# Altium schematic symbol library ARCOM_Capacitors.SchLib: 225 symbols (part 1 of 4)
Pins are listed as number, name and electrical type; pins without a type are passive.

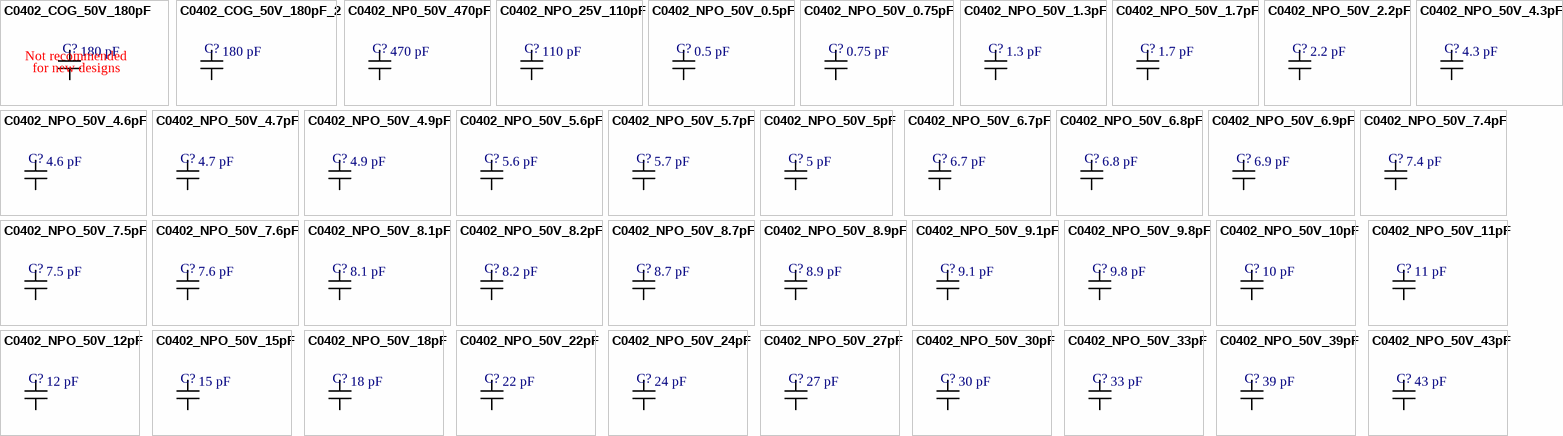
[diagram p0: symbols C0402_COG_50V_180pF to C0402_NPO_50V_43pF]

## C0402_COG_50V_180pF
designator C?  value 180 pF  (hidden comment: C0402_COG_50V_180pF)
Not recommended for new designs; Manufacturer: Murata Manufacturing co., ltd; Manufacturer P/N: GRM1555C1H181JA01J; Part: 180 pF,  COG, 50V, 5%tol.; ComponentLink2URL: http://search.murata.co.jp/Ceramy/image/img/A01X/G101/ENG/GRM155R71C104KA88-01.pdf; ComponentLink2Description: Datasheet; ComponentLink1Description: Manufacturer; ComponentLink1URL: http://www.murata.com/; ComponentLink3Description: Datasheet2; ComponentLink3URL: http://www.farnell.com/datasheets/1747446.pdf; Family: Capacitor
footprint C0402_L (Chip Capacitor, Body 1.0x0.5mm, Height 0.6mm, IPC High Density)
footprint C0402_M (Chip Capacitor, Body 1.0x0.5mm, Height 0.6mm, IPC Low Density)
footprint C0402_N (Chip Capacitor, Body 1.0x0.5mm, Height 0.6mm, IPC Medium Density)
footprint C0402_L - Arcom (Chip Capacitor, Body 1.0x0.5mm, Height 0.6mm, IPC High Density)
pins: 1, 2
text: Not recommended; for new designs

## C0402_COG_50V_180pF_2
designator C?, comment value 180 pF  (hidden comment: C0402_COG_50V_180pF)
Ceramic Capacitor 0402 Size; Manufacturer: Cal-chip; Manufacturer P/N: GMC04CG181J50NT; Part: 180 pF,  COG, 50V, 5%tol.; ComponentLink2URL: http://www.calchipelectronics.com/pdf/gmc_series.pdf; ComponentLink2Description: Datasheet; ComponentLink1Description: Manufacturer; ComponentLink1URL: http://www.calchipelectronics.com/; ComponentLink3Description: Datasheet2; Family: Capacitor
footprint C0402_L (Chip Capacitor, Body 1.0x0.5mm, Height 0.6mm, IPC High Density)
footprint C0402_M (Chip Capacitor, Body 1.0x0.5mm, Height 0.6mm, IPC Low Density)
footprint C0402_N (Chip Capacitor, Body 1.0x0.5mm, Height 0.6mm, IPC Medium Density)
footprint C0402_L - Arcom (Chip Capacitor, Body 1.0x0.5mm, Height 0.6mm, IPC High Density)
pins: 1, 2

## C0402_NP0_50V_470pF
designator C?  value 470 pF  (hidden comment: C0402_NP0_50V_470pF)
Ceramic Capacitor 0402 Size; Manufacturer: JOHANSON DIELECTRICS; Manufacturer P/N: 500R07N471GV4T; Part: 470 pF, NPO, 50V, 2%tol.; ComponentLink2URL: http://www.mouser.com/ds/2/611/JDI-Surface-Mount-516221.pdf; ComponentLink2Description: Datasheet; ComponentLink1Description: Manufacturer; ComponentLink1URL: http://www.johansondielectrics.com; ComponentLink3Description: Datasheet2; Family: Capacitor
footprint C0402_L (Chip Capacitor, Body 1.0x0.5mm, Height 0.6mm, IPC High Density)
footprint C0402_M (Chip Capacitor, Body 1.0x0.5mm, Height 0.6mm, IPC Low Density)
footprint C0402_N (Chip Capacitor, Body 1.0x0.5mm, Height 0.6mm, IPC Medium Density)
footprint C0402_L - Arcom (Chip Capacitor, Body 1.0x0.5mm, Height 0.6mm, IPC High Density)
pins: 1, 2

## C0402_NPO_25V_110pF
designator C?  value 110 pF  (hidden comment: C0402_NPO_25V_110pF)
Ceramic Capacitor 0402 Size; Manufacturer: Murata; Manufacturer P/N: GRM1555C1E111JA01D; Part: 110 pF, NPO, 25V, 5%tol.; ComponentLink2Description: Datasheet; ComponentLink1Description: Manufacturer; ComponentLink3Description: Datasheet2; Family: Capacitor
footprint C0402_L (Chip Capacitor, Body 1.0x0.5mm, Height 0.6mm, IPC High Density)
footprint C0402_M (Chip Capacitor, Body 1.0x0.5mm, Height 0.6mm, IPC Low Density)
footprint C0402_N (Chip Capacitor, Body 1.0x0.5mm, Height 0.6mm, IPC Medium Density)
footprint C0402_L - Arcom (Chip Capacitor, Body 1.0x0.5mm, Height 0.6mm, IPC High Density)
pins: 1, 2

## C0402_NPO_50V_0.5pF
designator C?  value 0.5 pF  (hidden comment: C0402_NPO_50V_0.5pF)
Ceramic Capacitor 0402 Size; Manufacturer: JOHANSON DIELECTRICS; Manufacturer P/N: 500R07S0R5BV4T; Part: 0.5 pF, NPO, 50V, +/-0.1pF tol.; ComponentLink2URL: http://www.mouser.com/ds/2/611/JDI-Surface-Mount-516221.pdf; ComponentLink2Description: Datasheet; ComponentLink1Description: Manufacturer; ComponentLink1URL: http://www.johansondielectrics.com; ComponentLink3Description: Datasheet2; Family: Capacitor
footprint C0402_L (Chip Capacitor, Body 1.0x0.5mm, Height 0.6mm, IPC High Density)
footprint C0402_N (Chip Capacitor, Body 1.0x0.5mm, Height 0.6mm, IPC Medium Density)
footprint C0402_M (Chip Capacitor, Body 1.0x0.5mm, Height 0.6mm, IPC Low Density)
footprint C0402_L - Arcom (Chip Capacitor, Body 1.0x0.5mm, Height 0.6mm, IPC High Density)
pins: 1, 2

## C0402_NPO_50V_0.75pF
designator C?  value 0.75 pF  (hidden comment: C0402_NPO_50V_0.75pF)
Ceramic Capacitor 0402 Size; Manufacturer: Murata; Manufacturer P/N: GCM1555C1HR75CA16D; Part: 0.75 pF, NPO, 50V, 0.25pF_tol.; ComponentLink2Description: Datasheet; ComponentLink1Description: Manufacturer; ComponentLink3Description: Datasheet2; Family: Capacitor
footprint C0402_L (Chip Capacitor, Body 1.0x0.5mm, Height 0.6mm, IPC High Density)
footprint C0402_N (Chip Capacitor, Body 1.0x0.5mm, Height 0.6mm, IPC Medium Density)
footprint C0402_M (Chip Capacitor, Body 1.0x0.5mm, Height 0.6mm, IPC Low Density)
footprint C0402_L - Arcom (Chip Capacitor, Body 1.0x0.5mm, Height 0.6mm, IPC High Density)
pins: 1, 2

## C0402_NPO_50V_1.3pF
designator C?  value 1.3 pF  (hidden comment: C0402_NPO_50V_1.3pF)
Ceramic Capacitor 0402 Size; Manufacturer P/N: GRM1555C1H1R3CA01D; Part: 1.3 pF, NPO, 50V, 0.25pF_tol.; ComponentLink2Description: Datasheet; ComponentLink1Description: Manufacturer; ComponentLink3Description: Datasheet2; Family: Capacitor
footprint C0402_L (Chip Capacitor, Body 1.0x0.5mm, Height 0.6mm, IPC High Density)
footprint C0402_N (Chip Capacitor, Body 1.0x0.5mm, Height 0.6mm, IPC Medium Density)
footprint C0402_M (Chip Capacitor, Body 1.0x0.5mm, Height 0.6mm, IPC Low Density)
footprint C0402_L - Arcom (Chip Capacitor, Body 1.0x0.5mm, Height 0.6mm, IPC High Density)
pins: 1, 2

## C0402_NPO_50V_1.7pF
designator C?  value 1.7 pF  (hidden comment: C0402_NPO_50V_1.7pF)
Ceramic Capacitor 0402 Size; Manufacturer: JOHANSON DIELECTRICS; Manufacturer P/N: 500R07S1R7BV4T; Part: 1.7 pF, NPO, 50V, +/-0.1pF tol.; ComponentLink2URL: http://www.mouser.com/ds/2/611/JDI-Surface-Mount-516221.pdf; ComponentLink2Description: Datasheet; ComponentLink1Description: Manufacturer; ComponentLink1URL: http://www.johansondielectrics.com; ComponentLink3Description: Datasheet2; Family: Capacitor
footprint C0402_L (Chip Capacitor, Body 1.0x0.5mm, Height 0.6mm, IPC High Density)
footprint C0402_N (Chip Capacitor, Body 1.0x0.5mm, Height 0.6mm, IPC Medium Density)
footprint C0402_M (Chip Capacitor, Body 1.0x0.5mm, Height 0.6mm, IPC Low Density)
footprint C0402_L - Arcom (Chip Capacitor, Body 1.0x0.5mm, Height 0.6mm, IPC High Density)
pins: 1, 2

## C0402_NPO_50V_2.2pF
designator C?  value 2.2 pF  (hidden comment: C0402_NPO_50V_2.2pF)
Ceramic Capacitor 0402 Size; Manufacturer P/N: GCQ1555C1H2R2BB01D; Part: 2.2 pF, NPO, 50V, 0.1pF_tol.; ComponentLink2URL: https://ru.mouser.com/datasheet/2/281/GCQ1555C1HR51WB01-01-1154307.pdf; ComponentLink2Description: Datasheet; ComponentLink1Description: Manufacturer; ComponentLink3Description: Datasheet2; Family: Capacitor
footprint C0402_L (Chip Capacitor, Body 1.0x0.5mm, Height 0.6mm, IPC High Density)
footprint C0402_N (Chip Capacitor, Body 1.0x0.5mm, Height 0.6mm, IPC Medium Density)
footprint C0402_M (Chip Capacitor, Body 1.0x0.5mm, Height 0.6mm, IPC Low Density)
footprint C0402_L - Arcom (Chip Capacitor, Body 1.0x0.5mm, Height 0.6mm, IPC High Density)
pins: 1, 2

## C0402_NPO_50V_4.3pF
designator C?  value 4.3 pF  (hidden comment: C0402_NPO_50V_4.3pF)
Ceramic Capacitor 0402 Size; Manufacturer: JOHANSON DIELECTRICS; Manufacturer P/N: 500R07N4R3BV4T; Part: 4.3 pF, NPO, 50V, +/- 0.1pF tol.; ComponentLink2URL: http://www.mouser.com/ds/2/611/JDI-Surface-Mount-516221.pdf; ComponentLink2Description: Datasheet; ComponentLink1Description: Manufacturer; ComponentLink1URL: http://www.johansondielectrics.com; ComponentLink3Description: Datasheet2; Family: Capacitor
footprint C0402_L (Chip Capacitor, Body 1.0x0.5mm, Height 0.6mm, IPC High Density)
footprint C0402_N (Chip Capacitor, Body 1.0x0.5mm, Height 0.6mm, IPC Medium Density)
footprint C0402_M (Chip Capacitor, Body 1.0x0.5mm, Height 0.6mm, IPC Low Density)
footprint C0402_L - Arcom (Chip Capacitor, Body 1.0x0.5mm, Height 0.6mm, IPC High Density)
pins: 1, 2

## C0402_NPO_50V_4.6pF
designator C?  value 4.6 pF  (hidden comment: C0402_NPO_50V_4.6pF)
Ceramic Capacitor 0402 Size; Manufacturer: Murata; Manufacturer P/N: GCM1555C1H4R6CA01D; Part: 4.6 pF, NPO, 50V, 0.25pF_tol.; ComponentLink2Description: Datasheet; ComponentLink1Description: Manufacturer; ComponentLink3Description: Datasheet2; Family: Capacitor
footprint C0402_L (Chip Capacitor, Body 1.0x0.5mm, Height 0.6mm, IPC High Density)
footprint C0402_N (Chip Capacitor, Body 1.0x0.5mm, Height 0.6mm, IPC Medium Density)
footprint C0402_M (Chip Capacitor, Body 1.0x0.5mm, Height 0.6mm, IPC Low Density)
footprint C0402_L - Arcom (Chip Capacitor, Body 1.0x0.5mm, Height 0.6mm, IPC High Density)
pins: 1, 2

## C0402_NPO_50V_4.7pF
designator C?  value 4.7 pF  (hidden comment: C0402_NPO_50V_4.7pF)
Ceramic Capacitor 0402 Size; Manufacturer: Kemet; Manufacturer P/N: C0402C479B5GACTU; Part: 4.7 pF, NPO, 50V, 0.1pF_tol.; ComponentLink2Description: Datasheet; ComponentLink1Description: Manufacturer; ComponentLink3Description: Datasheet2; Family: Capacitor
footprint C0402_L (Chip Capacitor, Body 1.0x0.5mm, Height 0.6mm, IPC High Density)
footprint C0402_N (Chip Capacitor, Body 1.0x0.5mm, Height 0.6mm, IPC Medium Density)
footprint C0402_M (Chip Capacitor, Body 1.0x0.5mm, Height 0.6mm, IPC Low Density)
footprint C0402_L - Arcom (Chip Capacitor, Body 1.0x0.5mm, Height 0.6mm, IPC High Density)
pins: 1, 2

## C0402_NPO_50V_4.9pF
designator C?  value 4.9 pF  (hidden comment: C0402_NPO_50V_4.9pF)
Ceramic Capacitor 0402 Size; Manufacturer: JOHANSON DIELECTRICS; Manufacturer P/N: 500R07N4R9BV4T; Part: 4.9 pF, NPO, 50V, +/- 0.1pF tol.; ComponentLink2URL: http://www.mouser.com/ds/2/611/JDI-Surface-Mount-516221.pdf; ComponentLink2Description: Datasheet; ComponentLink1Description: Manufacturer; ComponentLink1URL: http://www.johansondielectrics.com; ComponentLink3Description: Datasheet2; Family: Capacitor
footprint C0402_L (Chip Capacitor, Body 1.0x0.5mm, Height 0.6mm, IPC High Density)
footprint C0402_N (Chip Capacitor, Body 1.0x0.5mm, Height 0.6mm, IPC Medium Density)
footprint C0402_M (Chip Capacitor, Body 1.0x0.5mm, Height 0.6mm, IPC Low Density)
footprint C0402_L - Arcom (Chip Capacitor, Body 1.0x0.5mm, Height 0.6mm, IPC High Density)
pins: 1, 2

## C0402_NPO_50V_5.6pF
designator C?  value 5.6 pF  (hidden comment: C0402_NPO_50V_5.6pF)
Ceramic Capacitor 0402 Size; Manufacturer: JOHANSON DIELECTRICS; Manufacturer P/N: 500R07N5R6BV4T; Part: 5.6 pF, NPO, 50V, +/- 0.1pF tol.; ComponentLink2URL: http://www.mouser.com/ds/2/611/JDI-Surface-Mount-516221.pdf; ComponentLink2Description: Datasheet; ComponentLink1Description: Manufacturer; ComponentLink1URL: http://www.johansondielectrics.com; ComponentLink3Description: Datasheet2; Family: Capacitor
footprint C0402_L (Chip Capacitor, Body 1.0x0.5mm, Height 0.6mm, IPC High Density)
footprint C0402_N (Chip Capacitor, Body 1.0x0.5mm, Height 0.6mm, IPC Medium Density)
footprint C0402_M (Chip Capacitor, Body 1.0x0.5mm, Height 0.6mm, IPC Low Density)
footprint C0402_L - Arcom (Chip Capacitor, Body 1.0x0.5mm, Height 0.6mm, IPC High Density)
pins: 1, 2

## C0402_NPO_50V_5.7pF
designator C?  value 5.7 pF  (hidden comment: C0402_NPO_50V_5.7pF)
Ceramic Capacitor 0402 Size; Manufacturer: Murata; Manufacturer P/N: GRM1555C1H5R7BA01D; Part: 5.7 pF, NPO, 50V, 0.1pF_tol.; ComponentLink2Description: Datasheet; ComponentLink1Description: Manufacturer; ComponentLink3Description: Datasheet2; Family: Capacitor
footprint C0402_L (Chip Capacitor, Body 1.0x0.5mm, Height 0.6mm, IPC High Density)
footprint C0402_M (Chip Capacitor, Body 1.0x0.5mm, Height 0.6mm, IPC Low Density)
footprint C0402_N (Chip Capacitor, Body 1.0x0.5mm, Height 0.6mm, IPC Medium Density)
footprint C0402_L - Arcom (Chip Capacitor, Body 1.0x0.5mm, Height 0.6mm, IPC High Density)
pins: 1, 2

## C0402_NPO_50V_5pF
designator C?  value 5 pF  (hidden comment: C0402_NPO_50V_5pF)
Ceramic Capacitor 0402 Size; Manufacturer: Murata; Manufacturer P/N: GCM1555C1H5R0CA16D; Part: 5 pF, NPO, 50V, 0.25pF_tol.; ComponentLink2Description: Datasheet; ComponentLink1Description: Manufacturer; ComponentLink3Description: Datasheet2; Family: Capacitor
footprint C0402_L (Chip Capacitor, Body 1.0x0.5mm, Height 0.6mm, IPC High Density)
footprint C0402_N (Chip Capacitor, Body 1.0x0.5mm, Height 0.6mm, IPC Medium Density)
footprint C0402_M (Chip Capacitor, Body 1.0x0.5mm, Height 0.6mm, IPC Low Density)
footprint C0402_L - Arcom (Chip Capacitor, Body 1.0x0.5mm, Height 0.6mm, IPC High Density)
pins: 1, 2

## C0402_NPO_50V_6.7pF
designator C?  value 6.7 pF  (hidden comment: C0402_NPO_50V_6.7pF)
Ceramic Capacitor 0402 Size; Manufacturer: Murata; Manufacturer P/N: GRM1555C1H6R7CA01D; Part: 6.7 pF, NPO, 50V, 0.25pF_tol.; ComponentLink2Description: Datasheet; ComponentLink1Description: Manufacturer; ComponentLink3Description: Datasheet2; Family: Capacitor
footprint C0402_L (Chip Capacitor, Body 1.0x0.5mm, Height 0.6mm, IPC High Density)
footprint C0402_M (Chip Capacitor, Body 1.0x0.5mm, Height 0.6mm, IPC Low Density)
footprint C0402_N (Chip Capacitor, Body 1.0x0.5mm, Height 0.6mm, IPC Medium Density)
footprint C0402_L - Arcom (Chip Capacitor, Body 1.0x0.5mm, Height 0.6mm, IPC High Density)
pins: 1, 2

## C0402_NPO_50V_6.8pF
designator C?  value 6.8 pF  (hidden comment: C0402_NPO_50V_6.8pF)
Ceramic Capacitor 0402 Size; Manufacturer: Murata; Manufacturer P/N: GRM1555C1H6R8CA01D; Part: 6.8 pF, NPO, 50V, 0.25pF_tol.; ComponentLink2Description: Datasheet; ComponentLink1Description: Manufacturer; ComponentLink3Description: Datasheet2; Family: Capacitor
footprint C0402_L (Chip Capacitor, Body 1.0x0.5mm, Height 0.6mm, IPC High Density)
footprint C0402_M (Chip Capacitor, Body 1.0x0.5mm, Height 0.6mm, IPC Low Density)
footprint C0402_N (Chip Capacitor, Body 1.0x0.5mm, Height 0.6mm, IPC Medium Density)
footprint C0402_L - Arcom (Chip Capacitor, Body 1.0x0.5mm, Height 0.6mm, IPC High Density)
pins: 1, 2

## C0402_NPO_50V_6.9pF
designator C?  value 6.9 pF  (hidden comment: C0402_NPO_50V_6.9pF)
Ceramic Capacitor 0402 Size; Manufacturer: Murata; Manufacturer P/N: GRM1555C1H6R9CA01D; Part: 6.9 pF, NPO, 50V, 0.25pF_tol.; ComponentLink2Description: Datasheet; ComponentLink1Description: Manufacturer; ComponentLink3Description: Datasheet2; Family: Capacitor
footprint C0402_L (Chip Capacitor, Body 1.0x0.5mm, Height 0.6mm, IPC High Density)
footprint C0402_M (Chip Capacitor, Body 1.0x0.5mm, Height 0.6mm, IPC Low Density)
footprint C0402_N (Chip Capacitor, Body 1.0x0.5mm, Height 0.6mm, IPC Medium Density)
footprint C0402_L - Arcom (Chip Capacitor, Body 1.0x0.5mm, Height 0.6mm, IPC High Density)
pins: 1, 2

## C0402_NPO_50V_7.4pF
designator C?  value 7.4 pF  (hidden comment: C0402_NPO_50V_7.4pF)
Ceramic Capacitor 0402 Size; Manufacturer: Murata; Manufacturer P/N: GRM1555C1H7R4DA01D; Part: 7.4 pF, NP0, 50V, 0.5pF_tol.; ComponentLink2Description: Datasheet; ComponentLink1Description: Manufacturer; ComponentLink3Description: Datasheet2; Family: Capacitor
footprint C0402_L (Chip Capacitor, Body 1.0x0.5mm, Height 0.6mm, IPC High Density)
footprint C0402_M (Chip Capacitor, Body 1.0x0.5mm, Height 0.6mm, IPC Low Density)
footprint C0402_N (Chip Capacitor, Body 1.0x0.5mm, Height 0.6mm, IPC Medium Density)
footprint C0402_L - Arcom (Chip Capacitor, Body 1.0x0.5mm, Height 0.6mm, IPC High Density)
pins: 1, 2

## C0402_NPO_50V_7.5pF
designator C?  value 7.5 pF  (hidden comment: C0402_NPO_50V_7.5pF)
Ceramic Capacitor 0402 Size; Manufacturer: JOHANSON DIELECTRICS; Manufacturer P/N: 500R07S7R5DV4T; Part: 7.5 pF, NPO, 50V, +/-0.5pF tol.; ComponentLink2URL: http://www.mouser.com/ds/2/611/JDI-Surface-Mount-516221.pdf; ComponentLink2Description: Datasheet; ComponentLink1Description: Manufacturer; ComponentLink1URL: http://www.johansondielectrics.com; ComponentLink3Description: Datasheet2; Family: Capacitor
footprint C0402_L (Chip Capacitor, Body 1.0x0.5mm, Height 0.6mm, IPC High Density)
footprint C0402_N (Chip Capacitor, Body 1.0x0.5mm, Height 0.6mm, IPC Medium Density)
footprint C0402_M (Chip Capacitor, Body 1.0x0.5mm, Height 0.6mm, IPC Low Density)
footprint C0402_L - Arcom (Chip Capacitor, Body 1.0x0.5mm, Height 0.6mm, IPC High Density)
pins: 1, 2

## C0402_NPO_50V_7.6pF
designator C?  value 7.6 pF  (hidden comment: C0402_NPO_50V_7.6pF)
Ceramic Capacitor 0402 Size; Manufacturer: Murata; Manufacturer P/N: GRM1555C1H7R6DA01D; Part: 7.6 pF, NP0, 50V, 0.5pF_tol.; ComponentLink2Description: Datasheet; ComponentLink1Description: Manufacturer; ComponentLink3Description: Datasheet2; Family: Capacitor
footprint C0402_L (Chip Capacitor, Body 1.0x0.5mm, Height 0.6mm, IPC High Density)
footprint C0402_M (Chip Capacitor, Body 1.0x0.5mm, Height 0.6mm, IPC Low Density)
footprint C0402_N (Chip Capacitor, Body 1.0x0.5mm, Height 0.6mm, IPC Medium Density)
footprint C0402_L - Arcom (Chip Capacitor, Body 1.0x0.5mm, Height 0.6mm, IPC High Density)
pins: 1, 2

## C0402_NPO_50V_8.1pF
designator C?  value 8.1 pF  (hidden comment: C0402_NPO_50V_8.1pF)
Ceramic Capacitor 0402 Size; Manufacturer: Murata; Manufacturer P/N: GRM1555C1E8R1DA1D; Part: 8.1 pF, NP0, 25V, 0.5pF_tol.; ComponentLink2Description: Datasheet; ComponentLink1Description: Manufacturer; ComponentLink3Description: Datasheet2; Family: Capacitor
footprint C0402_L (Chip Capacitor, Body 1.0x0.5mm, Height 0.6mm, IPC High Density)
footprint C0402_M (Chip Capacitor, Body 1.0x0.5mm, Height 0.6mm, IPC Low Density)
footprint C0402_N (Chip Capacitor, Body 1.0x0.5mm, Height 0.6mm, IPC Medium Density)
footprint C0402_L - Arcom (Chip Capacitor, Body 1.0x0.5mm, Height 0.6mm, IPC High Density)
pins: 1, 2

## C0402_NPO_50V_8.2pF
designator C?  value 8.2 pF  (hidden comment: C0402_NPO_50V_8.2pF)
Ceramic Capacitor 0402 Size; Manufacturer: JOHANSON DIELECTRICS; Manufacturer P/N: 500R07N8R2BV4T; Part: 8.2 pF, NPO, 50V, +/-0.1pF tol.; ComponentLink2URL: http://www.mouser.com/ds/2/611/JDI-Surface-Mount-516221.pdf; ComponentLink2Description: Datasheet; ComponentLink1Description: Manufacturer; ComponentLink1URL: http://www.johansondielectrics.com; ComponentLink3Description: Datasheet2; Family: Capacitor
footprint C0402_L (Chip Capacitor, Body 1.0x0.5mm, Height 0.6mm, IPC High Density)
footprint C0402_N (Chip Capacitor, Body 1.0x0.5mm, Height 0.6mm, IPC Medium Density)
footprint C0402_M (Chip Capacitor, Body 1.0x0.5mm, Height 0.6mm, IPC Low Density)
footprint C0402_L - Arcom (Chip Capacitor, Body 1.0x0.5mm, Height 0.6mm, IPC High Density)
pins: 1, 2

## C0402_NPO_50V_8.7pF
designator C?  value 8.7 pF  (hidden comment: C0402_NPO_50V_8.7pF)
Ceramic Capacitor 0402 Size; Manufacturer: JOHANSON DIELECTRICS; Manufacturer P/N: 500R07N8R7BV4T; Part: 8.7 pF, NPO, 50V, +/-0.1pF tol.; ComponentLink2URL: http://www.mouser.com/ds/2/611/JDI-Surface-Mount-516221.pdf; ComponentLink2Description: Datasheet; ComponentLink1Description: Manufacturer; ComponentLink1URL: http://www.johansondielectrics.com; ComponentLink3Description: Datasheet2; Family: Capacitor
footprint C0402_L (Chip Capacitor, Body 1.0x0.5mm, Height 0.6mm, IPC High Density)
footprint C0402_N (Chip Capacitor, Body 1.0x0.5mm, Height 0.6mm, IPC Medium Density)
footprint C0402_M (Chip Capacitor, Body 1.0x0.5mm, Height 0.6mm, IPC Low Density)
footprint C0402_L - Arcom (Chip Capacitor, Body 1.0x0.5mm, Height 0.6mm, IPC High Density)
pins: 1, 2

## C0402_NPO_50V_8.9pF
designator C?  value 8.9 pF  (hidden comment: C0402_NPO_50V_8.9pF)
Ceramic Capacitor 0402 Size; Manufacturer: Murata; Manufacturer P/N: GRM1555C1H8R9DA01D; Part: 8.9 pF, NP0, 50V, 0.5pF_tol.; ComponentLink2Description: Datasheet; ComponentLink1Description: Manufacturer; ComponentLink3Description: Datasheet2; Family: Capacitor
footprint C0402_L (Chip Capacitor, Body 1.0x0.5mm, Height 0.6mm, IPC High Density)
footprint C0402_M (Chip Capacitor, Body 1.0x0.5mm, Height 0.6mm, IPC Low Density)
footprint C0402_N (Chip Capacitor, Body 1.0x0.5mm, Height 0.6mm, IPC Medium Density)
footprint C0402_L - Arcom (Chip Capacitor, Body 1.0x0.5mm, Height 0.6mm, IPC High Density)
pins: 1, 2

## C0402_NPO_50V_9.1pF
designator C?  value 9.1 pF  (hidden comment: C0402_NPO_50V_9.1pF)
Ceramic Capacitor 0402 Size; Manufacturer: JOHANSON DIELECTRICS; Manufacturer P/N: 500R07S9R1CV4T; Part: 9.1 pF, NPO, 50V, +/-0.25pF tol.; ComponentLink2URL: http://www.mouser.com/ds/2/611/JDI-Surface-Mount-516221.pdf; ComponentLink2Description: Datasheet; ComponentLink1Description: Manufacturer; ComponentLink1URL: http://www.johansondielectrics.com; ComponentLink3Description: Datasheet2; Family: Capacitor
footprint C0402_L (Chip Capacitor, Body 1.0x0.5mm, Height 0.6mm, IPC High Density)
footprint C0402_N (Chip Capacitor, Body 1.0x0.5mm, Height 0.6mm, IPC Medium Density)
footprint C0402_M (Chip Capacitor, Body 1.0x0.5mm, Height 0.6mm, IPC Low Density)
footprint C0402_L - Arcom (Chip Capacitor, Body 1.0x0.5mm, Height 0.6mm, IPC High Density)
pins: 1, 2

## C0402_NPO_50V_9.8pF
designator C?  value 9.8 pF  (hidden comment: C0402_NPO_50V_9.8pF)
Ceramic Capacitor 0402 Size; Manufacturer: Murata; Manufacturer P/N: GRM1555C1H9R8DA01D; Part: 9.8 pF, NP0, 50V, 0.5pF_tol.; ComponentLink2Description: Datasheet; ComponentLink1Description: Manufacturer; ComponentLink3Description: Datasheet2; Family: Capacitor
footprint C0402_L (Chip Capacitor, Body 1.0x0.5mm, Height 0.6mm, IPC High Density)
footprint C0402_M (Chip Capacitor, Body 1.0x0.5mm, Height 0.6mm, IPC Low Density)
footprint C0402_N (Chip Capacitor, Body 1.0x0.5mm, Height 0.6mm, IPC Medium Density)
footprint C0402_L - Arcom (Chip Capacitor, Body 1.0x0.5mm, Height 0.6mm, IPC High Density)
pins: 1, 2

## C0402_NPO_50V_10pF
designator C?  value 10 pF  (hidden comment: C0402_NPO_50V_10pF)
Ceramic Capacitor 0402 Size; Manufacturer: JOHANSON DIELECTRICS; Manufacturer P/N: 500R07N100GV4T; Part: 10 pF, NPO, 50V, 2%tol.; ComponentLink2URL: http://www.mouser.com/ds/2/611/JDI-Surface-Mount-516221.pdf; ComponentLink2Description: Datasheet; ComponentLink1Description: Manufacturer; ComponentLink1URL: http://www.johansondielectrics.com; ComponentLink3Description: Datasheet2; Family: Capacitor
footprint C0402_L (Chip Capacitor, Body 1.0x0.5mm, Height 0.6mm, IPC High Density)
footprint C0402_N (Chip Capacitor, Body 1.0x0.5mm, Height 0.6mm, IPC Medium Density)
footprint C0402_M (Chip Capacitor, Body 1.0x0.5mm, Height 0.6mm, IPC Low Density)
footprint C0402_L - Arcom (Chip Capacitor, Body 1.0x0.5mm, Height 0.6mm, IPC High Density)
pins: 1, 2

## C0402_NPO_50V_11pF
designator C?  value 11 pF  (hidden comment: C0402_NPO_50V_11pF)
Ceramic Capacitor 0402 Size; Manufacturer: JOHANSON DIELECTRICS; Manufacturer P/N: 500R07N110JV4T; Part: 11 pF, NPO, 50V, 5%tol.; ComponentLink2URL: http://www.mouser.com/ds/2/611/JDI-Surface-Mount-516221.pdf; ComponentLink2Description: Datasheet; ComponentLink1Description: Manufacturer; ComponentLink1URL: http://www.johansondielectrics.com; ComponentLink3Description: Datasheet2; Family: Capacitor
footprint C0402_L (Chip Capacitor, Body 1.0x0.5mm, Height 0.6mm, IPC High Density)
footprint C0402_N (Chip Capacitor, Body 1.0x0.5mm, Height 0.6mm, IPC Medium Density)
footprint C0402_M (Chip Capacitor, Body 1.0x0.5mm, Height 0.6mm, IPC Low Density)
footprint C0402_L - Arcom (Chip Capacitor, Body 1.0x0.5mm, Height 0.6mm, IPC High Density)
pins: 1, 2

## C0402_NPO_50V_12pF
designator C?  value 12 pF  (hidden comment: C0402_NPO_50V_12pF)
Ceramic Capacitor 0402 Size; Manufacturer: JOHANSON DIELECTRICS; Manufacturer P/N: 500R07N120GV4T; Part: 12 pF, NPO, 50V, 2%tol.; .Checked: 20180222; ComponentLink2URL: http://www.mouser.com/ds/2/611/JDI-Surface-Mount-516221.pdf; ComponentLink2Description: Datasheet; ComponentLink1Description: Manufacturer; ComponentLink1URL: http://www.johansondielectrics.com; ComponentLink3Description: Datasheet2; Family: Capacitor
footprint C0402_L (Chip Capacitor, Body 1.0x0.5mm, Height 0.6mm, IPC High Density)
footprint C0402_N (Chip Capacitor, Body 1.0x0.5mm, Height 0.6mm, IPC Medium Density)
footprint C0402_M (Chip Capacitor, Body 1.0x0.5mm, Height 0.6mm, IPC Low Density)
footprint C0402_L - Arcom (Chip Capacitor, Body 1.0x0.5mm, Height 0.6mm, IPC High Density)
pins: 1, 2

## C0402_NPO_50V_15pF
designator C?  value 15 pF  (hidden comment: C0402_NPO_50V_15pF)
Ceramic Capacitor 0402 Size; Manufacturer: JOHANSON DIELECTRICS; Manufacturer P/N: 500R07N150JV4T; Part: 15 pF, NPO, 50V, 5%tol.; ComponentLink2URL: http://www.mouser.com/ds/2/611/JDI-Surface-Mount-516221.pdf; ComponentLink2Description: Datasheet; ComponentLink1Description: Manufacturer; ComponentLink1URL: http://www.johansondielectrics.com; ComponentLink3Description: Datasheet2; Family: Capacitor
footprint C0402_L (Chip Capacitor, Body 1.0x0.5mm, Height 0.6mm, IPC High Density)
footprint C0402_N (Chip Capacitor, Body 1.0x0.5mm, Height 0.6mm, IPC Medium Density)
footprint C0402_M (Chip Capacitor, Body 1.0x0.5mm, Height 0.6mm, IPC Low Density)
footprint C0402_L - Arcom (Chip Capacitor, Body 1.0x0.5mm, Height 0.6mm, IPC High Density)
pins: 1, 2

## C0402_NPO_50V_18pF
designator C?  value 18 pF  (hidden comment: C0402_NPO_50V_18pF)
Ceramic Capacitor 0402 Size; Manufacturer: JOHANSON DIELECTRICS; Manufacturer P/N: 500R07N180GV4T; Part: 18 pF, NPO, 50V, 2%tol.; ComponentLink2URL: http://www.mouser.com/ds/2/611/JDI-Surface-Mount-516221.pdf; ComponentLink2Description: Datasheet; ComponentLink1Description: Manufacturer; ComponentLink1URL: http://www.johansondielectrics.com; ComponentLink3Description: Datasheet2; Family: Capacitor
footprint C0402_L (Chip Capacitor, Body 1.0x0.5mm, Height 0.6mm, IPC High Density)
footprint C0402_M (Chip Capacitor, Body 1.0x0.5mm, Height 0.6mm, IPC Low Density)
footprint C0402_N (Chip Capacitor, Body 1.0x0.5mm, Height 0.6mm, IPC Medium Density)
footprint C0402_L - Arcom (Chip Capacitor, Body 1.0x0.5mm, Height 0.6mm, IPC High Density)
pins: 1, 2

## C0402_NPO_50V_22pF
designator C?  value 22 pF  (hidden comment: C0402_NPO_50V_22pF)
Ceramic Capacitor 0402 Size; Manufacturer: JOHANSON DIELECTRICS; Manufacturer P/N: 500R07N220GV4T; Part: 22 pF, NPO, 50V, 2%tol.; ComponentLink2URL: http://www.mouser.com/ds/2/611/JDI-Surface-Mount-516221.pdf; ComponentLink2Description: Datasheet; ComponentLink1Description: Manufacturer; ComponentLink1URL: http://www.johansondielectrics.com; ComponentLink3Description: Datasheet2; Family: Capacitor
footprint C0402_L (Chip Capacitor, Body 1.0x0.5mm, Height 0.6mm, IPC High Density)
footprint C0402_M (Chip Capacitor, Body 1.0x0.5mm, Height 0.6mm, IPC Low Density)
footprint C0402_N (Chip Capacitor, Body 1.0x0.5mm, Height 0.6mm, IPC Medium Density)
footprint C0402_L - Arcom (Chip Capacitor, Body 1.0x0.5mm, Height 0.6mm, IPC High Density)
pins: 1, 2

## C0402_NPO_50V_24pF
designator C?  value 24 pF  (hidden comment: C0402_NPO_50V_24pF)
Ceramic Capacitor 0402 Size; Manufacturer: JOHANSON DIELECTRICS; Manufacturer P/N: 500R07N240GV4T; Part: 24 pF, NPO, 50V, 2%tol.; ComponentLink2URL: http://www.mouser.com/ds/2/611/JDI-Surface-Mount-516221.pdf; ComponentLink2Description: Datasheet; ComponentLink1Description: Manufacturer; ComponentLink1URL: http://www.johansondielectrics.com; ComponentLink3Description: Datasheet2; Family: Capacitor
footprint C0402_L (Chip Capacitor, Body 1.0x0.5mm, Height 0.6mm, IPC High Density)
footprint C0402_M (Chip Capacitor, Body 1.0x0.5mm, Height 0.6mm, IPC Low Density)
footprint C0402_N (Chip Capacitor, Body 1.0x0.5mm, Height 0.6mm, IPC Medium Density)
footprint C0402_L - Arcom (Chip Capacitor, Body 1.0x0.5mm, Height 0.6mm, IPC High Density)
pins: 1, 2

## C0402_NPO_50V_27pF
designator C?  value 27 pF  (hidden comment: C0402_NPO_50V_27pF)
Ceramic Capacitor 0402 Size; Manufacturer: JOHANSON DIELECTRICS; Manufacturer P/N: 500R07N270GV4T; Part: 27 pF, NPO, 50V, 2%tol.; ComponentLink2URL: http://www.mouser.com/ds/2/611/JDI-Surface-Mount-516221.pdf; ComponentLink2Description: Datasheet; ComponentLink1Description: Manufacturer; ComponentLink1URL: http://www.johansondielectrics.com; ComponentLink3Description: Datasheet2; Family: Capacitor
footprint C0402_L (Chip Capacitor, Body 1.0x0.5mm, Height 0.6mm, IPC High Density)
footprint C0402_M (Chip Capacitor, Body 1.0x0.5mm, Height 0.6mm, IPC Low Density)
footprint C0402_N (Chip Capacitor, Body 1.0x0.5mm, Height 0.6mm, IPC Medium Density)
footprint C0402_L - Arcom (Chip Capacitor, Body 1.0x0.5mm, Height 0.6mm, IPC High Density)
pins: 1, 2

## C0402_NPO_50V_30pF
designator C?  value 30 pF  (hidden comment: C0402_NPO_50V_30pF)
Ceramic Capacitor 0402 Size; Manufacturer: JOHANSON DIELECTRICS; Manufacturer P/N: 500R07N300JV4T; Part: 30 pF, NPO, 50V, 2%tol.; ComponentLink2URL: http://www.mouser.com/ds/2/611/JDI-Surface-Mount-516221.pdf; ComponentLink2Description: Datasheet; ComponentLink1Description: Manufacturer; ComponentLink1URL: http://www.johansondielectrics.com; ComponentLink3Description: Datasheet2; Family: Capacitor
footprint C0402_L (Chip Capacitor, Body 1.0x0.5mm, Height 0.6mm, IPC High Density)
footprint C0402_M (Chip Capacitor, Body 1.0x0.5mm, Height 0.6mm, IPC Low Density)
footprint C0402_N (Chip Capacitor, Body 1.0x0.5mm, Height 0.6mm, IPC Medium Density)
footprint C0402_L - Arcom (Chip Capacitor, Body 1.0x0.5mm, Height 0.6mm, IPC High Density)
pins: 1, 2

## C0402_NPO_50V_33pF
designator C?  value 33 pF  (hidden comment: C0402_NPO_50V_33pF)
Ceramic Capacitor 0402 Size; Manufacturer: JOHANSON DIELECTRICS; Manufacturer P/N: 500R07N330JV4T; Part: 33 pF, NPO, 50V, 2%tol.; ComponentLink2URL: http://www.mouser.com/ds/2/611/JDI-Surface-Mount-516221.pdf; ComponentLink2Description: Datasheet; ComponentLink1Description: Manufacturer; ComponentLink1URL: http://www.johansondielectrics.com; ComponentLink3Description: Datasheet2; Family: Capacitor
footprint C0402_L (Chip Capacitor, Body 1.0x0.5mm, Height 0.6mm, IPC High Density)
footprint C0402_M (Chip Capacitor, Body 1.0x0.5mm, Height 0.6mm, IPC Low Density)
footprint C0402_N (Chip Capacitor, Body 1.0x0.5mm, Height 0.6mm, IPC Medium Density)
footprint C0402_L - Arcom (Chip Capacitor, Body 1.0x0.5mm, Height 0.6mm, IPC High Density)
pins: 1, 2

## C0402_NPO_50V_39pF
designator C?  value 39 pF  (hidden comment: C0402_NPO_50V_39pF)
Ceramic Capacitor 0402 Size; Manufacturer: Murata; Manufacturer P/N: GRM1555C1H390GA01D; Part: 39 pF, NP0, 50V, 2%_tol.; ComponentLink2Description: Datasheet; ComponentLink1Description: Manufacturer; ComponentLink3Description: Datasheet2; Family: Capacitor
footprint C0402_L (Chip Capacitor, Body 1.0x0.5mm, Height 0.6mm, IPC High Density)
footprint C0402_M (Chip Capacitor, Body 1.0x0.5mm, Height 0.6mm, IPC Low Density)
footprint C0402_N (Chip Capacitor, Body 1.0x0.5mm, Height 0.6mm, IPC Medium Density)
footprint C0402_L - Arcom (Chip Capacitor, Body 1.0x0.5mm, Height 0.6mm, IPC High Density)
pins: 1, 2

## C0402_NPO_50V_43pF
designator C?  value 43 pF  (hidden comment: C0402_NPO_50V_43pF)
GRM1555 Ceramic Capacitor 0402 Size; Manufacturer: Murata; Manufacturer P/N: GRM1555C1H430JA01D; Part: 43 pF, NPO, 50V, 5%tol.; ComponentLink2URL: https://ru.mouser.com/datasheet/2/281/murata_03122018_GCM_Series-1310150.pdf; ComponentLink2Description: Datasheet; ComponentLink1Description: Manufacturer; ComponentLink3Description: Datasheet2; Family: Capacitor
footprint C0402_L - Arcom (Chip Capacitor, Body 1.0x0.5mm, Height 0.6mm, IPC High Density)
pins: 1, 2

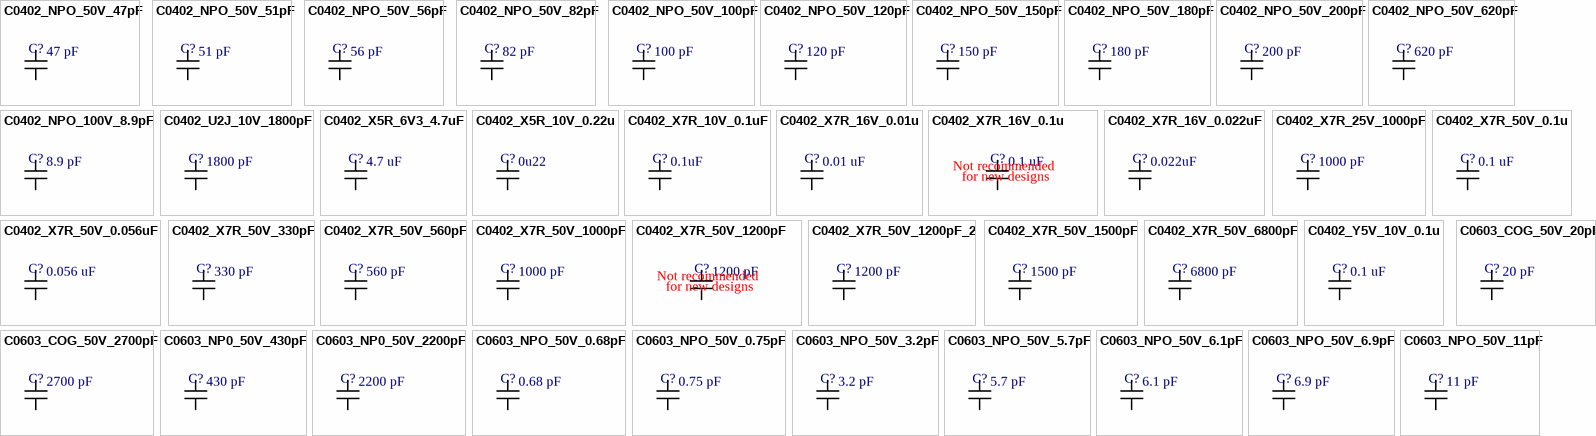
[diagram p1: symbols C0402_NPO_50V_47pF to C0603_NPO_50V_11pF]

## C0402_NPO_50V_47pF
designator C?  value 47 pF  (hidden comment: C0402_NPO_50V_47pF)
Ceramic Capacitor 0402 Size; Manufacturer: JOHANSON DIELECTRICS; Manufacturer P/N: 500R07N470GV4T; Part: 47 pF, NPO, 50V, 5%tol.; ComponentLink2URL: http://www.mouser.com/ds/2/611/JDI-Surface-Mount-516221.pdf; ComponentLink2Description: Datasheet; ComponentLink1Description: Manufacturer; ComponentLink1URL: http://www.johansondielectrics.com; ComponentLink3Description: Datasheet2; Family: Capacitor
footprint C0402_L (Chip Capacitor, Body 1.0x0.5mm, Height 0.6mm, IPC High Density)
footprint C0402_M (Chip Capacitor, Body 1.0x0.5mm, Height 0.6mm, IPC Low Density)
footprint C0402_N (Chip Capacitor, Body 1.0x0.5mm, Height 0.6mm, IPC Medium Density)
footprint C0402_L - Arcom (Chip Capacitor, Body 1.0x0.5mm, Height 0.6mm, IPC High Density)
pins: 1, 2

## C0402_NPO_50V_51pF
designator C?  value 51 pF  (hidden comment: C0402_NPO_50V_51pF)
Ceramic Capacitor 0402 Size; Manufacturer: Murata; Manufacturer P/N: GRM1555C1H510JA01D; Part: 51 pF, NPO, 50V, 5%tol.; ComponentLink2Description: Datasheet; ComponentLink1Description: Manufacturer; ComponentLink3Description: Datasheet2; Family: Capacitor
footprint C0402_L (Chip Capacitor, Body 1.0x0.5mm, Height 0.6mm, IPC High Density)
footprint C0402_M (Chip Capacitor, Body 1.0x0.5mm, Height 0.6mm, IPC Low Density)
footprint C0402_N (Chip Capacitor, Body 1.0x0.5mm, Height 0.6mm, IPC Medium Density)
footprint C0402_L - Arcom (Chip Capacitor, Body 1.0x0.5mm, Height 0.6mm, IPC High Density)
pins: 1, 2

## C0402_NPO_50V_56pF
designator C?  value 56 pF  (hidden comment: C0402_NPO_50V_56pF)
Ceramic Capacitor 0402 Size; Manufacturer: Murata; Manufacturer P/N: GRM1555C1H560FA01J; Part: 56 pF, NPO, 50V, 1%_tol.; ComponentLink2Description: Datasheet; ComponentLink1Description: Manufacturer; ComponentLink3Description: Datasheet2; Family: Capacitor
footprint C0402_L (Chip Capacitor, Body 1.0x0.5mm, Height 0.6mm, IPC High Density)
footprint C0402_N (Chip Capacitor, Body 1.0x0.5mm, Height 0.6mm, IPC Medium Density)
footprint C0402_M (Chip Capacitor, Body 1.0x0.5mm, Height 0.6mm, IPC Low Density)
footprint C0402_L - Arcom (Chip Capacitor, Body 1.0x0.5mm, Height 0.6mm, IPC High Density)
pins: 1, 2

## C0402_NPO_50V_82pF
designator C?  value 82 pF  (hidden comment: C0402_NPO_50V_82pF)
Ceramic Capacitor 0402 Size; Manufacturer: Murata; Manufacturer P/N: GRM1555C1H820JA16D; Part: 82 pF, NPO, 50V, 5%tol.; ComponentLink2Description: Datasheet; ComponentLink1Description: Manufacturer; ComponentLink3Description: Datasheet2; Family: Capacitor
footprint C0402_L (Chip Capacitor, Body 1.0x0.5mm, Height 0.6mm, IPC High Density)
footprint C0402_M (Chip Capacitor, Body 1.0x0.5mm, Height 0.6mm, IPC Low Density)
footprint C0402_N (Chip Capacitor, Body 1.0x0.5mm, Height 0.6mm, IPC Medium Density)
footprint C0402_L - Arcom (Chip Capacitor, Body 1.0x0.5mm, Height 0.6mm, IPC High Density)
pins: 1, 2

## C0402_NPO_50V_100pF
designator C?  value 100 pF  (hidden comment: C0402_NPO_50V_100pF)
Ceramic Capacitor 0402 Size; Manufacturer: JOHANSON DIELECTRICS; Manufacturer P/N: 500R07N101GV4T; Part: 100 pF, NPO, 50V, 2%tol.; ComponentLink2URL: http://www.mouser.com/ds/2/611/JDI-Surface-Mount-516221.pdf; ComponentLink2Description: Datasheet; ComponentLink1Description: Manufacturer; ComponentLink1URL: http://www.johansondielectrics.com; ComponentLink3Description: Datasheet2; Family: Capacitor
footprint C0402_L (Chip Capacitor, Body 1.0x0.5mm, Height 0.6mm, IPC High Density)
footprint C0402_M (Chip Capacitor, Body 1.0x0.5mm, Height 0.6mm, IPC Low Density)
footprint C0402_N (Chip Capacitor, Body 1.0x0.5mm, Height 0.6mm, IPC Medium Density)
footprint C0402_L - Arcom (Chip Capacitor, Body 1.0x0.5mm, Height 0.6mm, IPC High Density)
pins: 1, 2

## C0402_NPO_50V_120pF
designator C?  value 120 pF  (hidden comment: C0402_NPO_50V_120pF)
GRM1555 Ceramic Capacitor 0402 Size; Manufacturer: Murata; Manufacturer P/N: GRM1555C1H121JA01D; Part: 120 pF, NPO, 50V, 5%tol.; ComponentLink2URL: https://ru.mouser.com/datasheet/2/281/murata_03122018_GCM_Series-1310150.pdf; ComponentLink2Description: Datasheet; ComponentLink1Description: Manufacturer; ComponentLink3Description: Datasheet2; Family: Capacitor
footprint C0402_L - Arcom (Chip Capacitor, Body 1.0x0.5mm, Height 0.6mm, IPC High Density)
pins: 1, 2

## C0402_NPO_50V_150pF
designator C?  value 150 pF  (hidden comment: C0402_NPO_50V_150pF)
GRM1555 Ceramic Capacitor 0402 Size; Manufacturer: Murata; Manufacturer P/N: GRM1555C1H151JA01J; Part: 150 pF, NPO, 50V, 5%tol.; ComponentLink2URL: https://ru.mouser.com/datasheet/2/281/murata_03122018_GCM_Series-1310150.pdf; ComponentLink2Description: Datasheet; ComponentLink1Description: Manufacturer; ComponentLink3Description: Datasheet2; Family: Capacitor
footprint C0402_L - Arcom (Chip Capacitor, Body 1.0x0.5mm, Height 0.6mm, IPC High Density)
pins: 1, 2

## C0402_NPO_50V_180pF
designator C?  value 180 pF  (hidden comment: C0402_NPO_50V_180pF)
GRM1555 Ceramic Capacitor 0402 Size; Manufacturer: Murata; Manufacturer P/N: GRM1555C1H181JA01J; Part: 180 pF, NPO, 50V, 5%tol.; ComponentLink2URL: https://ru.mouser.com/datasheet/2/281/murata_03122018_GCM_Series-1310150.pdf; ComponentLink2Description: Datasheet; ComponentLink1Description: Manufacturer; ComponentLink3Description: Datasheet2; Family: Capacitor
footprint C0402_L - Arcom (Chip Capacitor, Body 1.0x0.5mm, Height 0.6mm, IPC High Density)
pins: 1, 2

## C0402_NPO_50V_200pF
designator C?  value 200 pF  (hidden comment: C0402_NPO_50V_200pF)
GCM1555 Ceramic Capacitor 0402 Size; Manufacturer: Murata; Manufacturer P/N: GCM1555C1H201JA16D; Part: 200 pF, NPO, 50V, 5%tol.; ComponentLink2URL: https://ru.mouser.com/datasheet/2/281/murata_03122018_GCM_Series-1310150.pdf; ComponentLink2Description: Datasheet; ComponentLink1Description: Manufacturer; ComponentLink3Description: Datasheet2; Family: Capacitor
footprint C0402_L - Arcom (Chip Capacitor, Body 1.0x0.5mm, Height 0.6mm, IPC High Density)
pins: 1, 2

## C0402_NPO_50V_620pF
designator C?  value 620 pF  (hidden comment: C0402_NPO_50V_620pF)
Ceramic Capacitor 0402 Size; Manufacturer: Murata; Manufacturer P/N: GRM1555C1H621GA01D; Part: 620 pF, NPO, 50V, 2%tol.; ComponentLink2Description: Datasheet; ComponentLink1Description: Manufacturer; ComponentLink3Description: Datasheet2; Family: Capacitor
footprint C0402_L (Chip Capacitor, Body 1.0x0.5mm, Height 0.6mm, IPC High Density)
footprint C0402_M (Chip Capacitor, Body 1.0x0.5mm, Height 0.6mm, IPC Low Density)
footprint C0402_N (Chip Capacitor, Body 1.0x0.5mm, Height 0.6mm, IPC Medium Density)
footprint C0402_L - Arcom (Chip Capacitor, Body 1.0x0.5mm, Height 0.6mm, IPC High Density)
pins: 1, 2

## C0402_NPO_100V_8.9pF
designator C?  value 8.9 pF  (hidden comment: C0402_NPO_100V_8.9pF)
Ceramic Capacitor 0402 Size; Manufacturer: Murata; Manufacturer P/N: GRM1555C2A8R9CA01J; Part: 8.9 pF, NPO, 100V, +/-0.25pF tol.; ComponentLink2URL: https://ru.mouser.com/datasheet/2/281/murata_03052018_GRM_Series_1-1310166.pdf; ComponentLink2Description: Datasheet; ComponentLink1Description: Manufacturer; ComponentLink3Description: Datasheet2; Family: Capacitor
footprint C0402_L (Chip Capacitor, Body 1.0x0.5mm, Height 0.6mm, IPC High Density)
footprint C0402_N (Chip Capacitor, Body 1.0x0.5mm, Height 0.6mm, IPC Medium Density)
footprint C0402_M (Chip Capacitor, Body 1.0x0.5mm, Height 0.6mm, IPC Low Density)
footprint C0402_L - Arcom (Chip Capacitor, Body 1.0x0.5mm, Height 0.6mm, IPC High Density)
pins: 1, 2

## C0402_U2J_10V_1800pF
designator C?, comment value 1800 pF  (hidden comment: C0402_U2J_50V_1800pF)
Ceramic Capacitor 0402 Size; Manufacturer: Murata Manufacturing co., ltd; Manufacturer P/N: GRM1557U1A182JA01D; Part: 1.8nF,  U2J, 10V, 5%tol.; ComponentLink2Description: Datasheet; ComponentLink1Description: Manufacturer; ComponentLink1URL: http://www.murata.com/; ComponentLink3Description: Datasheet2; Family: Capacitor
footprint C0402_L (Chip Capacitor, Body 1.0x0.5mm, Height 0.6mm, IPC High Density)
footprint C0402_M (Chip Capacitor, Body 1.0x0.5mm, Height 0.6mm, IPC Low Density)
footprint C0402_N (Chip Capacitor, Body 1.0x0.5mm, Height 0.6mm, IPC Medium Density)
footprint C0402_L - Arcom (Chip Capacitor, Body 1.0x0.5mm, Height 0.6mm, IPC High Density)
pins: 1, 2

## C0402_X5R_6V3_4.7uF
designator C?  value 4.7 uF  (hidden comment: C0402_X5R_6V3_4.7uF)
Ceramic Capacitor 0402 Size; Manufacturer: Kemet; Manufacturer P/N: C0402C475M9PACTU; Part: 4.7 uF, X5R, 6.3V, 20%tol.; ComponentLink2Description: Datasheet; ComponentLink1Description: Manufacturer; ComponentLink3Description: Datasheet2; Family: Capacitor
footprint C0402_L (Chip Capacitor, Body 1.0x0.5mm, Height 0.6mm, IPC High Density)
footprint C0402_M (Chip Capacitor, Body 1.0x0.5mm, Height 0.6mm, IPC Low Density)
footprint C0402_N (Chip Capacitor, Body 1.0x0.5mm, Height 0.6mm, IPC Medium Density)
footprint C0402_L - Arcom (Chip Capacitor, Body 1.0x0.5mm, Height 0.6mm, IPC High Density)
pins: 1, 2

## C0402_X5R_10V_0.22u
designator C?  value 0u22  (hidden comment: C0402_X5R_10V_0.22u)
Ceramic Capacitor 0402 Size; Manufacturer: JOHANSON DIELECTRICS; Manufacturer P/N: 100R07X224KV4T; Part: 0.22 uF,  X5R, 10V, 10%tol.; ComponentLink2URL: http://www.mouser.com/ds/2/611/JDI-Tanceram-516226.pdf; ComponentLink2Description: Datasheet; ComponentLink1Description: Manufacturer; ComponentLink1URL: http://www.johansondielectrics.com/; ComponentLink3Description: Datasheet2; Family: Capacitor
footprint C0402_L (Chip Capacitor, Body 1.0x0.5mm, Height 0.6mm, IPC High Density)
footprint C0402_M (Chip Capacitor, Body 1.0x0.5mm, Height 0.6mm, IPC Low Density)
footprint C0402_N (Chip Capacitor, Body 1.0x0.5mm, Height 0.6mm, IPC Medium Density)
footprint C0402_L - Arcom (Chip Capacitor, Body 1.0x0.5mm, Height 0.6mm, IPC High Density)
pins: 1, 2

## C0402_X7R_10V_0.1uF
designator C?  value 0.1uF  (hidden comment: C0402_X7R_10V_0.1uF)
Ceramic Capacitor 0402 Size; Manufacturer: JOHANSON DIELECTRICS; Manufacturer P/N: 100R07W104JV4T; Part: 0.1 uF,  X7R, 10V, 5%tol.; ComponentLink2Description: Datasheet; ComponentLink1Description: Manufacturer; ComponentLink1URL: http://www.johansondielectrics.com/; ComponentLink3Description: Datasheet2; Family: Capacitor
footprint C0402_L (Chip Capacitor, Body 1.0x0.5mm, Height 0.6mm, IPC High Density)
footprint C0402_M (Chip Capacitor, Body 1.0x0.5mm, Height 0.6mm, IPC Low Density)
footprint C0402_N (Chip Capacitor, Body 1.0x0.5mm, Height 0.6mm, IPC Medium Density)
footprint C0402_L - Arcom (Chip Capacitor, Body 1.0x0.5mm, Height 0.6mm, IPC High Density)
pins: 1, 2

## C0402_X7R_16V_0.01u
designator C?  value 0.01 uF  (hidden comment: C0402_X7R_16V_0.01u)
Ceramic Capacitor 0402 Size; Manufacturer: JOHANSON DIELECTRICS; Manufacturer P/N: 160R07W103KV4T; Part: 10 nF,  X7R, 16V, 10%tol.; ComponentLink2URL: http://www.mouser.com/ds/2/611/JDI-Tanceram-516226.pdf; ComponentLink2Description: Datasheet; ComponentLink1Description: Manufacturer; ComponentLink1URL: http://www.johansondielectrics.com/; ComponentLink3Description: Datasheet2; Family: Capacitor
footprint C0402_L (Chip Capacitor, Body 1.0x0.5mm, Height 0.6mm, IPC High Density)
footprint C0402_M (Chip Capacitor, Body 1.0x0.5mm, Height 0.6mm, IPC Low Density)
footprint C0402_N (Chip Capacitor, Body 1.0x0.5mm, Height 0.6mm, IPC Medium Density)
footprint C0402_L - Arcom (Chip Capacitor, Body 1.0x0.5mm, Height 0.6mm, IPC High Density)
pins: 1, 2

## C0402_X7R_16V_0.1u
designator C?  value 0.1 uF  (hidden comment: C0402_X7R_16V_0.1u)
Not recommended for new designs; Manufacturer: Murata Manufacturing co., ltd; Manufacturer P/N: GRM155R71C104KA88D; Part: 0.1 uF,  X7R, 16V, 10%tol.; ComponentLink2URL: http://search.murata.co.jp/Ceramy/image/img/A01X/G101/ENG/GRM155R71C104KA88-01.pdf; ComponentLink2Description: Datasheet; ComponentLink1Description: Manufacturer; ComponentLink1URL: http://www.murata.com/; ComponentLink3Description: Datasheet2; ComponentLink3URL: http://www.farnell.com/datasheets/1747446.pdf; Family: Capacitor
footprint C0402_L (Chip Capacitor, Body 1.0x0.5mm, Height 0.6mm, IPC High Density)
footprint C0402_M (Chip Capacitor, Body 1.0x0.5mm, Height 0.6mm, IPC Low Density)
footprint C0402_N (Chip Capacitor, Body 1.0x0.5mm, Height 0.6mm, IPC Medium Density)
footprint C0402_L - Arcom (Chip Capacitor, Body 1.0x0.5mm, Height 0.6mm, IPC High Density)
pins: 1, 2
text: Not recommended; for new designs

## C0402_X7R_16V_0.022uF
designator C?  value 0.022uF  (hidden comment: C0402_X7R_16V_0.022uF)
Ceramic Capacitor 0402 Size; Manufacturer: JOHANSON DIELECTRICS; Manufacturer P/N: 160R07W223KV4T; Part: 0.022 uF,  X7R, 16V, 10%tol.; ComponentLink2URL: http://www.mouser.com/ds/2/611/JDI-Tanceram-516226.pdf; ComponentLink2Description: Datasheet; ComponentLink1Description: Manufacturer; ComponentLink1URL: http://www.johansondielectrics.com/; ComponentLink3Description: Datasheet2; Family: Capacitor
footprint C0402_L (Chip Capacitor, Body 1.0x0.5mm, Height 0.6mm, IPC High Density)
footprint C0402_M (Chip Capacitor, Body 1.0x0.5mm, Height 0.6mm, IPC Low Density)
footprint C0402_N (Chip Capacitor, Body 1.0x0.5mm, Height 0.6mm, IPC Medium Density)
footprint C0402_L - Arcom (Chip Capacitor, Body 1.0x0.5mm, Height 0.6mm, IPC High Density)
pins: 1, 2

## C0402_X7R_25V_1000pF
designator C?  value 1000 pF  (hidden comment: C0402_X7R_25V_1000pF)
Ceramic Capacitor 0402 Size; Manufacturer: JOHANSON DIELECTRICS; Manufacturer P/N: 250R07W102KV4T; Part: 1 nF,  X7R, 25V, 10%tol.; ComponentLink2URL: http://www.mouser.com/ds/2/611/JDI-Tanceram-516226.pdf; ComponentLink2Description: Datasheet; ComponentLink1Description: Manufacturer; ComponentLink1URL: http://www.johansondielectrics.com/; ComponentLink3Description: Datasheet2; Family: Capacitor
footprint C0402_L (Chip Capacitor, Body 1.0x0.5mm, Height 0.6mm, IPC High Density)
footprint C0402_M (Chip Capacitor, Body 1.0x0.5mm, Height 0.6mm, IPC Low Density)
footprint C0402_N (Chip Capacitor, Body 1.0x0.5mm, Height 0.6mm, IPC Medium Density)
footprint C0402_L - Arcom (Chip Capacitor, Body 1.0x0.5mm, Height 0.6mm, IPC High Density)
pins: 1, 2

## C0402_X7R_50V_0.1u
designator C?  value 0.1 uF  (hidden comment: C0402_X7R_50V_0.1u)
Ceramic Capacitor 0402 Size; Manufacturer: Cal-Chip; Manufacturer P/N: GMC04X7R104K50NT; Part: 0.1 uF,  X7R, 50V, 10%tol.; ComponentLink2URL: http://www.calchipelectronics.com/pdf/gmc_series.pdf; ComponentLink2Description: Datasheet; ComponentLink1Description: Manufacturer; ComponentLink1URL: http://www.calchipelectronics.com/; Family: Capacitor
footprint C0402_L (Chip Capacitor, Body 1.0x0.5mm, Height 0.6mm, IPC High Density)
footprint C0402_M (Chip Capacitor, Body 1.0x0.5mm, Height 0.6mm, IPC Low Density)
footprint C0402_N (Chip Capacitor, Body 1.0x0.5mm, Height 0.6mm, IPC Medium Density)
footprint C0402_L - Arcom (Chip Capacitor, Body 1.0x0.5mm, Height 0.6mm, IPC High Density)
pins: 1, 2

## C0402_X7R_50V_0.056uF
designator C?  value 0.056 uF  (hidden comment: C0402_X7R_50V_0.056uF)
Ceramic Capacitor 0402 Size; Manufacturer: Murata Manufacturing co., ltd; Manufacturer P/N: GRM155R71H563KE14D; Part: 0.056uF,  X7R, 50V, 10%tol.; ComponentLink2URL: http://search.murata.co.jp/Ceramy/image/img/A01X/G101/ENG/GRM155R71C104KA88-01.pdf; ComponentLink2Description: Datasheet; ComponentLink1Description: Manufacturer; ComponentLink1URL: http://www.murata.com/; ComponentLink3Description: Datasheet2; ComponentLink3URL: http://www.farnell.com/datasheets/1747446.pdf; Family: Capacitor
footprint C0402_L (Chip Capacitor, Body 1.0x0.5mm, Height 0.6mm, IPC High Density)
footprint C0402_M (Chip Capacitor, Body 1.0x0.5mm, Height 0.6mm, IPC Low Density)
footprint C0402_N (Chip Capacitor, Body 1.0x0.5mm, Height 0.6mm, IPC Medium Density)
footprint C0402_L - Arcom (Chip Capacitor, Body 1.0x0.5mm, Height 0.6mm, IPC High Density)
pins: 1, 2

## C0402_X7R_50V_330pF
designator C?  value 330 pF  (hidden comment: C0402_X7R_50V_330pF)
Ceramic Capacitor 0402 Size; Manufacturer: Kemet; Manufacturer P/N: C0402C331K5RAC7411; Part: 330 pF, X7R, 50V, 10%tol.; ComponentLink2Description: Datasheet; ComponentLink1Description: Manufacturer; ComponentLink3Description: Datasheet2; Family: Capacitor
footprint C0402_L (Chip Capacitor, Body 1.0x0.5mm, Height 0.6mm, IPC High Density)
footprint C0402_M (Chip Capacitor, Body 1.0x0.5mm, Height 0.6mm, IPC Low Density)
footprint C0402_N (Chip Capacitor, Body 1.0x0.5mm, Height 0.6mm, IPC Medium Density)
footprint C0402_L - Arcom (Chip Capacitor, Body 1.0x0.5mm, Height 0.6mm, IPC High Density)
pins: 1, 2

## C0402_X7R_50V_560pF
designator C?  value 560 pF  (hidden comment: C0402_X7R_50V_560pF)
Ceramic Capacitor 0402 Size; Manufacturer: Murata; Manufacturer P/N: GRM155R71H561KA01D; Part: 560 pF, X7R, 50V, 10%tol.; ComponentLink2Description: Datasheet; ComponentLink1Description: Manufacturer; ComponentLink3Description: Datasheet2; Family: Capacitor
footprint C0402_L (Chip Capacitor, Body 1.0x0.5mm, Height 0.6mm, IPC High Density)
footprint C0402_M (Chip Capacitor, Body 1.0x0.5mm, Height 0.6mm, IPC Low Density)
footprint C0402_N (Chip Capacitor, Body 1.0x0.5mm, Height 0.6mm, IPC Medium Density)
footprint C0402_L - Arcom (Chip Capacitor, Body 1.0x0.5mm, Height 0.6mm, IPC High Density)
pins: 1, 2

## C0402_X7R_50V_1000pF
designator C?  value 1000 pF  (hidden comment: C0402_X7R_50V_1000pF)
Ceramic Capacitor 0402 Size; Manufacturer: JOHANSON DIELECTRICS; Manufacturer P/N: 500R07W102JV4T; Part: 1 nF,  X7R, 50V, 5%tol.; ComponentLink2URL: http://www.mouser.com/ds/2/611/JDI-Tanceram-516226.pdf; ComponentLink2Description: Datasheet; ComponentLink1Description: Manufacturer; ComponentLink1URL: http://www.johansondielectrics.com/; ComponentLink3Description: Datasheet2; Family: Capacitor
footprint C0402_L (Chip Capacitor, Body 1.0x0.5mm, Height 0.6mm, IPC High Density)
footprint C0402_M (Chip Capacitor, Body 1.0x0.5mm, Height 0.6mm, IPC Low Density)
footprint C0402_N (Chip Capacitor, Body 1.0x0.5mm, Height 0.6mm, IPC Medium Density)
footprint C0402_L - Arcom (Chip Capacitor, Body 1.0x0.5mm, Height 0.6mm, IPC High Density)
pins: 1, 2